# EAGLE library part TPIC8101DW (library TPIC8101DW)
Vibration and Engine Knock Sensor Interface Source: Datasheet <http://www.ti.com/general/docs/lit/getliterature.tsp?genericPartNumber=TPIC8101&&fileType=pdf>
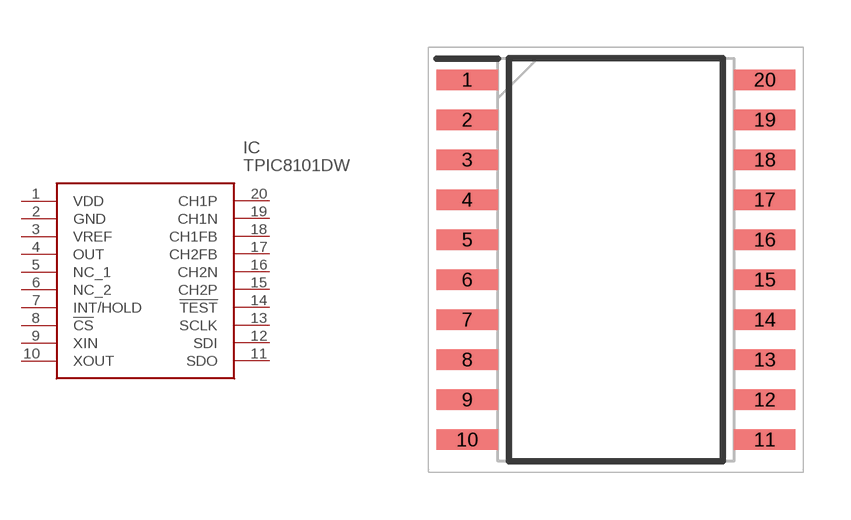
[diagram p0: symbol with the pads of SOIC127P1030X265-20N; footprint SOIC127P1030X265-20N]

Designator prefix IC

## TPIC8101DW (Arrow_Part_Number: TPIC8101DW; Arrow_Price-Stock: https://www.arrow.com/en/products/tpic8101dw/texas-instruments?region=nac; Description: Vibration and Engine Knock Sensor Interface; Height: 2.65mm; Manufacturer_Name: Texas Instruments; Manufacturer_Part_Number: TPIC8101DW; Mouser_Part_Number: 595-TPIC8101DW; Mouser_Price-Stock: https://www.mouser.co.uk/ProductDetail/Texas-Instruments/TPIC8101DW?qs=D8ivcil3VuwnjGabIL4Zzw%3D%3D)  [SOIC127P1030X265-20N]
1  VDD
2  GND
3  VREF
4  OUT
5  NC_1
6  NC_2
7  INT/HOLD
8  !CS
9  XIN
10  XOUT
11  SDO
12  SDI
13  SCLK
14  !TEST
15  CH2P
16  CH2N
17  CH2FB
18  CH1FB
19  CH1N
20  CH1P

## Footprint SOIC127P1030X265-20N (pad centres in mm)
DW0020A
smd 1.95 x 0.65: 1 -4.725,5.715; 2 -4.725,4.445; 3 -4.725,3.175; 4 -4.725,1.905; 5 -4.725,0.635; 6 -4.725,-0.635; 7 -4.725,-1.905; 8 -4.725,-3.175; 9 -4.725,-4.445; 10 -4.725,-5.715; 11 4.725,-5.715; 12 4.725,-4.445; 13 4.725,-3.175; 14 4.725,-1.905; 15 4.725,-0.635; 16 4.725,0.635; 17 4.725,1.905; 18 4.725,3.175; 19 4.725,4.445; 20 4.725,5.715